# Altium footprint library Ag96XX2BR.PcbLib: 1 footprints
Each footprint in its own frame and in the unit in brackets; x right, y up, seen from the top. Pads: shape width x height; smd on the part's side, far side on the other; paste and mask are expansions set on the pad; w line width, h text height; cw(c..) or ccw(c..) is an arc to the next point about the centre after c.
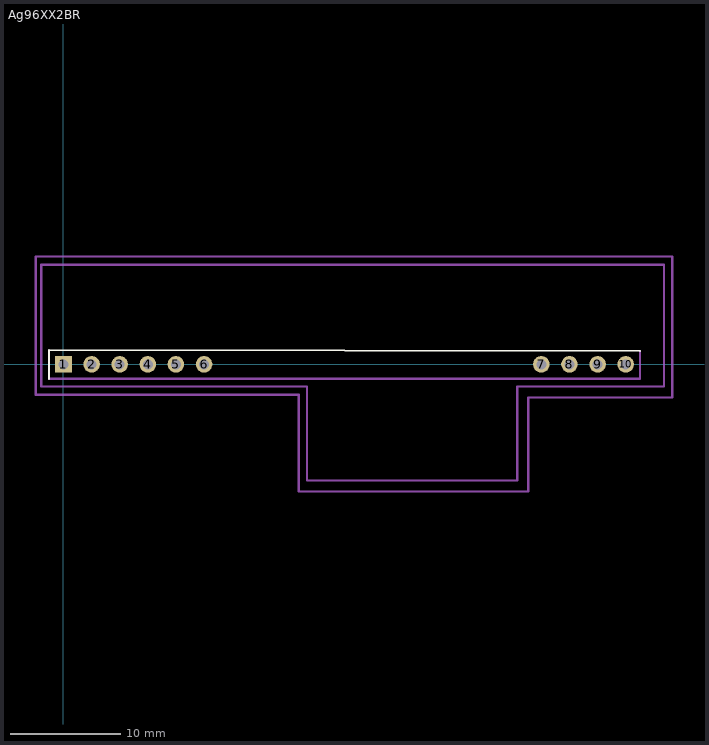
[diagram p0: the footprint, top view; thin cyan lines are the x and y axes]

## Ag96XX2BR [mm]
pads (10):
  rect 1.5x1.5 hole 0.9: 1(0,0)
  round 1.5 hole 0.9: 2(2.54,0) 3(5.08,0) 4(7.62,0) 5(10.16,0) 6(12.7,0) 7(43.18,0) 8(45.72,0) 9(48.26,0) 10(50.8,0)
Top Overlay:
  lines w0.2: -1.3,-1.3 -1.3,1.3 52.1,1.2
Top Assembly:
  lines w0.2: -2,-2 -2,9 54.25,9 54.25,3.25 54.25,-2 41,-2 41,-10.5 22,-10.5 22,-2 -2,-2
Bottom Assembly:
  lines w0.2: -1.3,-1.3 52.1,-1.3 ; 52.1,-1.3 52.1,1.2
Top Courtyard:
  lines w0.2: -2.5,-2.75 -2.5,9.75 55,9.75 55,-3 42,-3 42,-11.5 21.25,-11.5 21.25,-2.75 -2.5,-2.75
3D body "Ag9700.step": height 14, standoff -3, extent -1.8,-10.2 54.2,8.8